# EAGLE library part RFM22B-S2 (library r2p_rf)
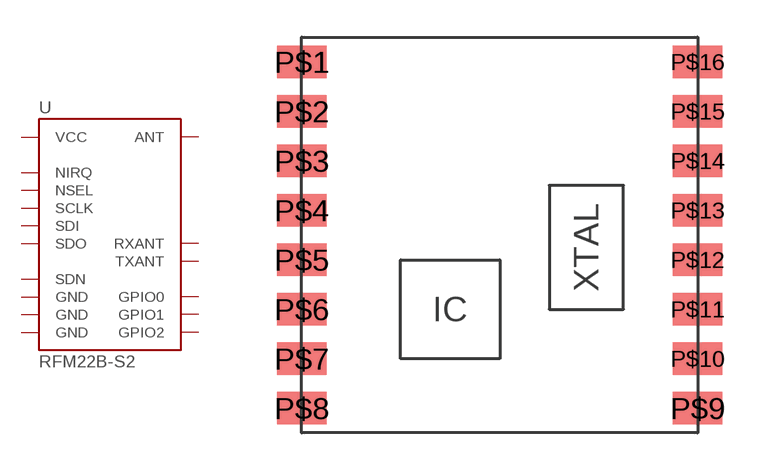
[diagram p1: symbol with the pads of RFM22B-S2; footprint RFM22B-S2]

Designator prefix -

## RFM22B-S2  [RFM22B-S2]
P$1  ANT
P$2  GND  pwr
P$3  RXANT  in
P$4  TXANT  in
P$5  VCC
P$6  GPIO0
P$7  GPIO1
P$8  GPIO2
P$9  GND  pwr
P$10  SDO  out
P$11  SDI  in
P$12  SCLK  in
P$13  NSEL  in
P$14  NIRQ  out
P$15  SDN  in
P$16  GND  pwr

## Footprint RFM22B-S2 (pad centres in mm)
smd 2 x 1.3: P$1 -8,7; P$2 -8,5; P$3 -8,3; P$4 -8,1; P$5 -8,-1; P$6 -8,-3; P$7 -8,-5; P$8 -8,-7; P$9 8,-7; P$10 8,-5; P$11 8,-3; P$12 8,-1; P$13 8,1; P$14 8,3; P$15 8,5; P$16 8,7